# EAGLE library part LT5537 (library Lasser)
Linear LT5537 Log Detector Wide Dynamic Range: 83dB Near DC - 1000MHz operation
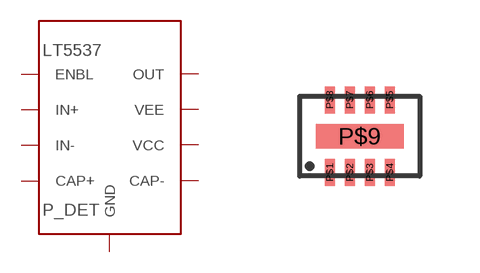
[diagram p7: symbol with the pads of 3X2MMDFN; footprint 3X2MMDFN]

Designator prefix P_DET

## LT5537  [3X2MMDFN]
P$1  ENBL
P$2  IN+
P$3  IN-
P$4  CAP+
P$5  CAP-
P$6  VCC
P$7  VEE
P$8  OUT
P$9  GND

## Footprint 3X2MMDFN (pad centres in mm)
smd 0.25 x 0.675: P$1 -0.75,-0.91; P$2 -0.25,-0.91; P$3 0.25,-0.91; P$4 0.75,-0.91; P$5 0.75,0.91; P$6 0.25,0.91; P$7 -0.25,0.91; P$8 -0.75,0.91
smd 2.2 x 0.61: P$9 0,0